# EAGLE library part JOYSTICK (library joystick)
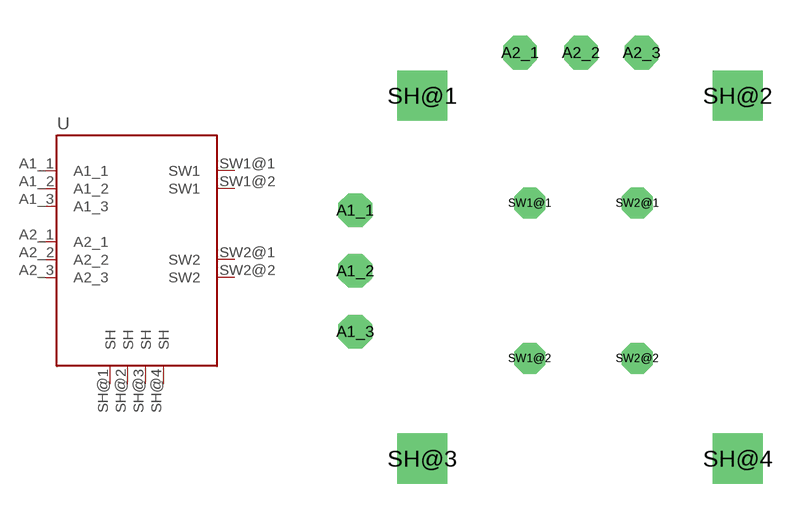
[diagram p0: symbol with the pads of JOY; footprint JOY]

Designator prefix -

## JOYSTICK  [JOY]
A1_1  A1_1
A1_2  A1_2
A1_3  A1_3
A2_1  A2_1
A2_2  A2_2
A2_3  A2_3
SH@1  SH
SH@2  SH
SH@3  SH
SH@4  SH
SW1@1  SW1
SW1@2  SW1
SW2@1  SW2
SW2@2  SW2

## Footprint JOY (pad centres in mm)
drill 0.9 octagon: A1_1 -7.3,6.2; A1_2 -7.3,3.66; A1_3 -7.3,1.12; A2_1 -0.4,12.8; A2_2 2.14,12.8; A2_3 4.68,12.8
drill 1.4 square: SH@1 -4.5,11; SH@2 8.7,11; SH@3 -4.5,-4.2; SH@4 8.7,-4.2
drill 0.8 octagon: SW1@1 0,6.5; SW1@2 0,0; SW2@1 4.5,6.5; SW2@2 4.5,0